# EAGLE library part LT3479 (library PowerProducts)
LT-Spice library generated with : ltspice.ulp from: E:/Programme/LTC/LTspiceIV/lib/sym/PowerProducts/LT3480*.asy at 05.10.2012 11:17:38
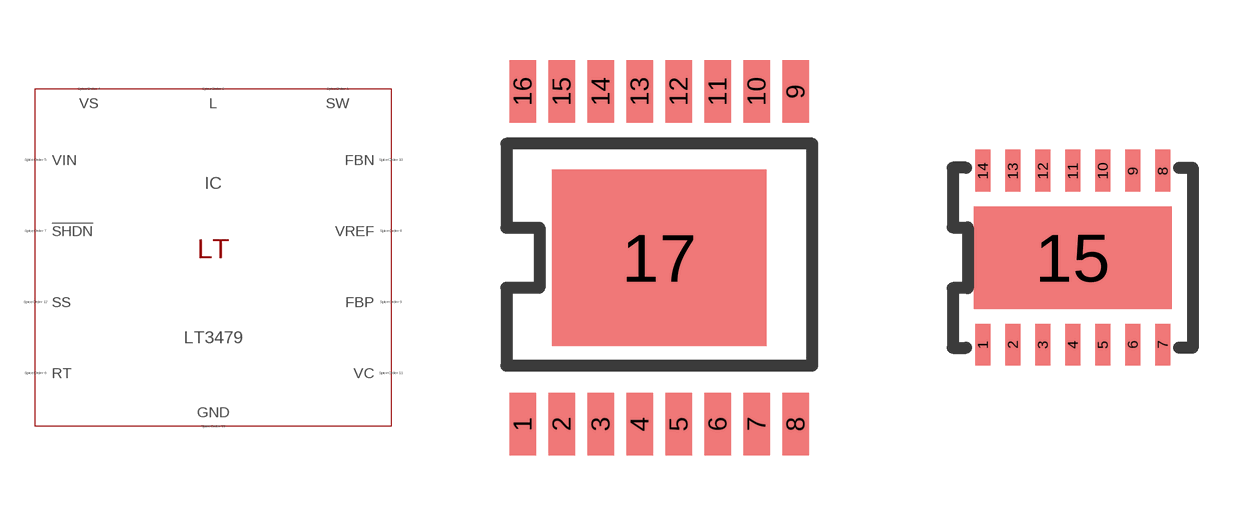
[diagram p44: symbol with the pads of TSSOP16BC(FE); footprints TSSOP16BC(FE), DFN14(DE)]

Designator prefix IC

## LT3479FE (SPICEMODEL: LT1762.lib; SPICEPREFIX: X; VALUE2: LT1762)  [TSSOP16BC(FE)]
1  SW  pas
2  SW  pas
3  L  pas
4  VS  pas
5  VIN  pas
6  RT  pas
7  !SHDN  pas
8  GND  pas
9  VREF  pas
10  FBP  pas
11  FBN  pas
12  VC  pas
13  SS  pas
14  GND  pas
15  GND  pas
16  GND  pas
17  GND  pas

## LT3479 (SPICEMODEL: LT1762.lib; SPICEPREFIX: X; VALUE2: LT1762)  [DFN14(DE)]
1  SW  pas
2  SW  pas
3  L  pas
4  VS  pas
5  VIN  pas
6  RT  pas
7  !SHDN  pas
8  VREF  pas
9  FBP  pas
10  FBN  pas
11  VC  pas
12  SS  pas
13  GND  pas
14  GND  pas
15  GND  pas

## Footprint TSSOP16BC(FE) (pad centres in mm)
Package generated from: TSSOP16BC(FE).asc (!PADS-POWERPCB-V5.0-BASIC! DESIGN DATABASE ASCII FILE 1.0) with :import-pads-powerpcb-v5.ulp Version 1.0.1 at 04.10.2012 14:11:39
smd 0.66 x 1.575: 1 -3.413,-4.162; 2 -2.438,-4.162; 3 -1.462,-4.162; 4 -0.487,-4.162; 5 0.487,-4.162; 6 1.462,-4.162; 7 2.438,-4.162; 8 3.413,-4.162; 9 3.413,4.162; 10 2.438,4.162; 11 1.462,4.162; 12 0.487,4.162; 13 -0.487,4.162; 14 -1.462,4.162; 15 -2.438,4.162; 16 -3.413,4.162
smd 5.37 x 4.41: 17 0,0

## Footprint DFN14(DE) (pad centres in mm)
Package generated from: DFN14(DE).asc (!PADS-POWERPCB-V5.0-BASIC! DESIGN DATABASE ASCII FILE 1.0) with :import-pads-powerpcb-v5.ulp Version 1.0.1 at 04.10.2012 14:11:16
smd 0.375 x 1.05: 1 -2.25,-2.175; 2 -1.5,-2.175; 3 -0.75,-2.175; 4 0,-2.175; 5 0.75,-2.175; 6 1.5,-2.175; 7 2.25,-2.175; 8 2.25,2.175; 9 1.5,2.175; 10 0.75,2.175; 11 0,2.175; 12 -0.75,2.175; 13 -1.5,2.175; 14 -2.25,2.175
smd 4.95 x 2.55: 15 0,0